# EAGLE library part TRANS_3WIND (library __MyCommonLib1)
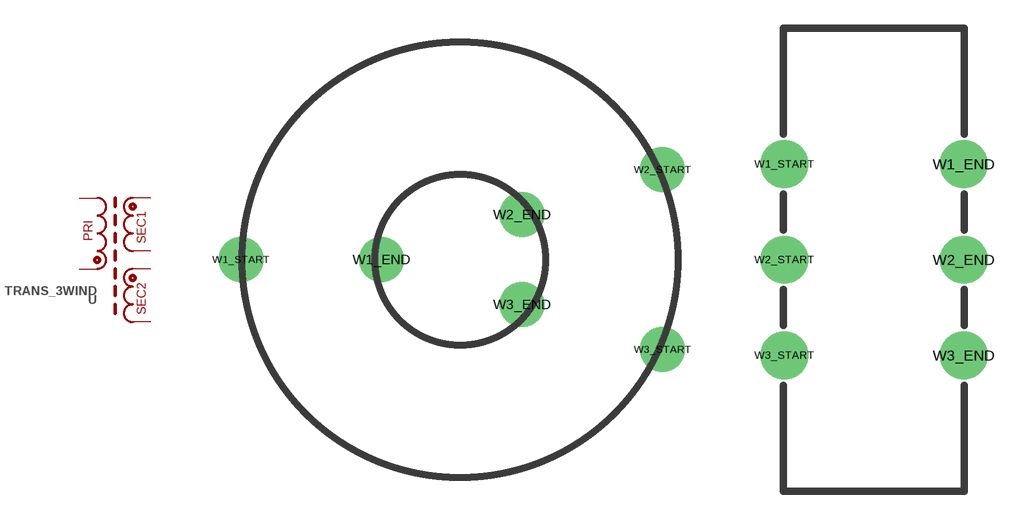
[diagram p12: symbol with the pads of RING_25X10_3WIND_HOR; footprints RING_25X10_3WIND_HOR, RING_25X10_3WIND_VERT]

Designator prefix -

## TRANS_3WINDRING25X10_HOR  [RING_25X10_3WIND_HOR]
W1_END  PRI_END
W1_START  PRI_START
W2_END  SEC1_END
W2_START  SEC1_START
W3_END  SEC2_END
W3_START  SEC2_START

## TRANS_3WINDRING25X10_VERT  [RING_25X10_3WIND_VERT]
Pads as for RING_25X10_3WIND_HOR

## TRANS_3WIND(ETD29_HOR)  [ETD29_HOR]
1  PRI_START
7  PRI_END
8  SEC1_START
10  SEC1_END
12  SEC2_START
14  SEC2_END

## Footprint RING_25X10_3WIND_HOR (pad centres in mm)
drill 0.8 pad 2.54: W1_END -4.445,0; W1_START -12.383,0; W2_END 3.493,2.54; W2_START 11.43,5.08; W3_END 3.493,-2.54; W3_START 11.43,-5.08

## Footprint RING_25X10_3WIND_VERT (pad centres in mm)
drill 0.8 pad 2.54: W1_END 4.763,5.08; W1_START -4.763,5.08; W2_END 4.763,0; W2_START -4.763,0; W3_END 4.763,-5.08; W3_START -4.763,-5.08

## Footprint ETD29_HOR (pad centres in mm)
drill 1 pad 2.5 square: 1 -12.7,15
drill 1 pad 2.5: 2 -12.7,10; 3 -12.7,5; 4 -12.7,0; 5 -12.7,-5; 6 -12.7,-10; 7 -12.7,-15; 8 12.7,-15; 9 12.7,-10; 10 12.7,-5; 11 12.7,0; 12 12.7,5; 13 12.7,10; 14 12.7,15